# Altium schematic symbol library BB-HEADER-P21-P40.SchLib: 1 symbol
Pins are listed as number, name and electrical type; pins without a type are passive.

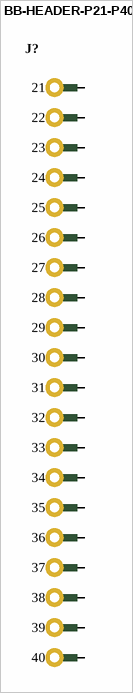
[diagram p0: symbol BB-HEADER-P21-P40]

## BB-HEADER-P21-P40
designator J?  (value not drawn)
BB Header, Vertical, Male, 0.1", 2.54mm, P21-P40
pins: 21, 22, 23, 24, 25, 26, 27, 28, 29, 30, 31, 32, 33, 34, 35, 36, 37, 38, 39, 40